# EAGLE library part XCV50E_CS144 (library xilinx-xcv)
xcv50e_cs144 edit this description Auto generated by make-symbol-device-package-bsdl.ulp Rev. 26 Source: xcv50e_cs144.bsd
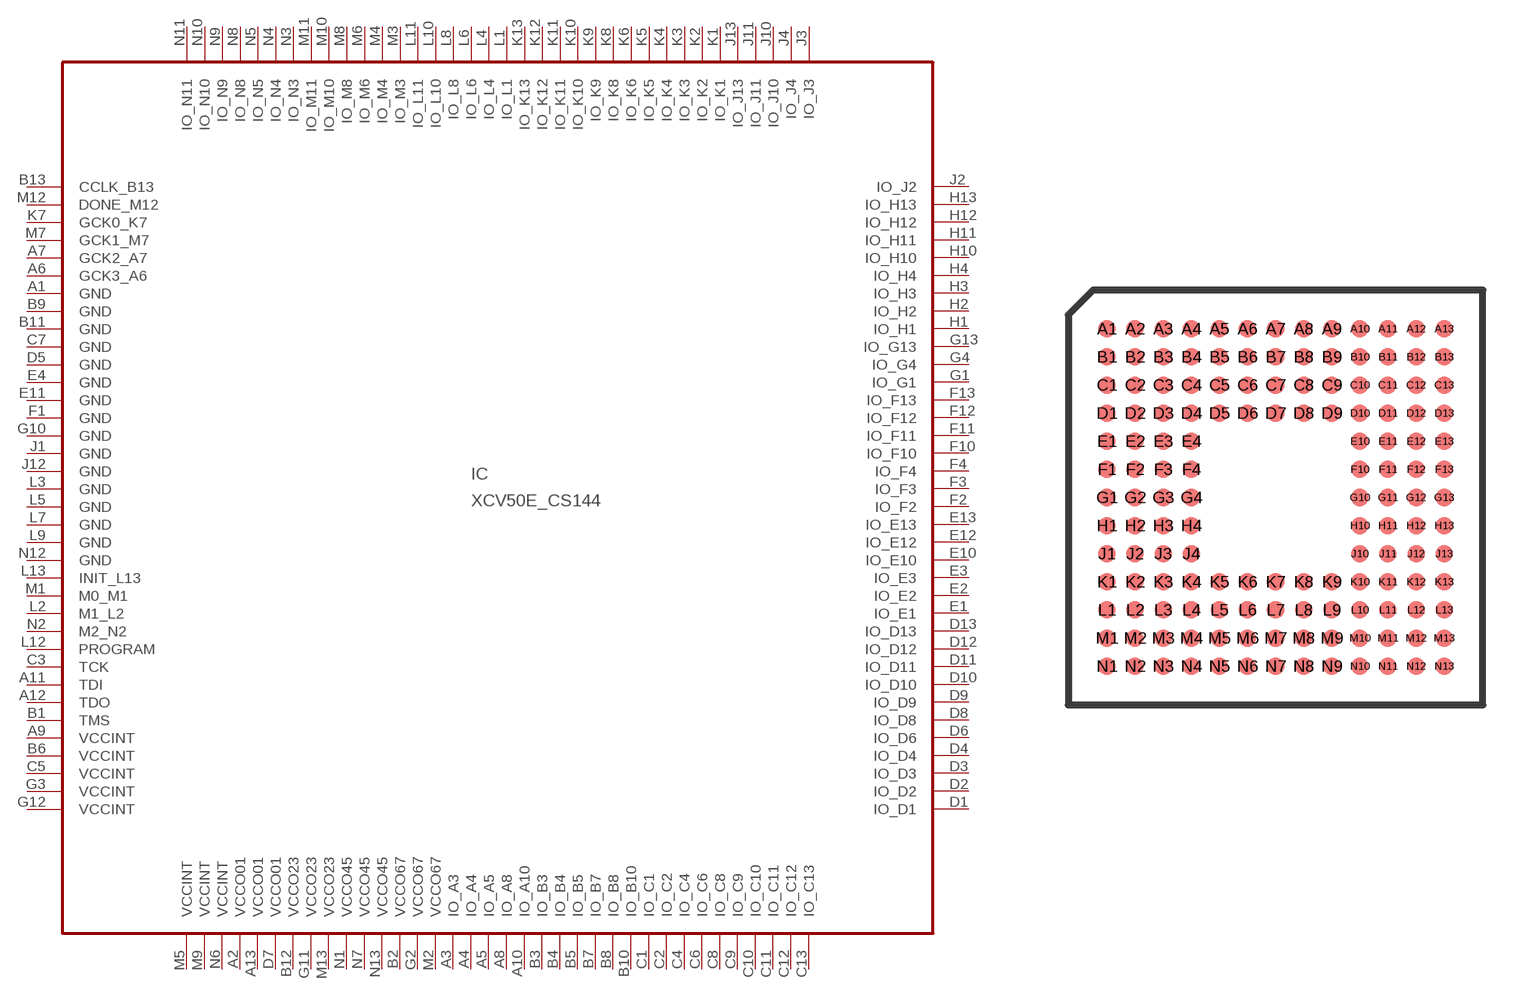
[diagram p70: symbol with the pads of CS144; footprint CS144]

Designator prefix IC

## XCV50E_CS144 (OC_FARNELL: unknown; OC_NEWARK: unknown)  [CS144]
A1  GND  pwr
A2  VCCO01  pwr
A3  IO_A3
A4  IO_A4
A5  IO_A5
A6  GCK3_A6  in
A7  GCK2_A7  in
A8  IO_A8
A9  VCCINT  pwr
A10  IO_A10
A11  TDI  in
A12  TDO  out
A13  VCCO01  pwr
B1  TMS  in
B2  VCCO67  pwr
B3  IO_B3
B4  IO_B4
B5  IO_B5
B6  VCCINT  pwr
B7  IO_B7
B8  IO_B8
B9  GND  pwr
B10  IO_B10
B11  GND  pwr
B12  VCCO23  pwr
B13  CCLK_B13
C1  IO_C1
C2  IO_C2
C3  TCK  in
C4  IO_C4
C5  VCCINT  pwr
C6  IO_C6
C7  GND  pwr
C8  IO_C8
C9  IO_C9
C10  IO_C10
C11  IO_C11
C12  IO_C12
C13  IO_C13
D1  IO_D1
D2  IO_D2
D3  IO_D3
D4  IO_D4
D5  GND  pwr
D6  IO_D6
D7  VCCO01  pwr
D8  IO_D8
D9  IO_D9
D10  IO_D10
D11  IO_D11
D12  IO_D12
D13  IO_D13
E1  IO_E1
E2  IO_E2
E3  IO_E3
E4  GND  pwr
E10  IO_E10
E11  GND  pwr
E12  IO_E12
E13  IO_E13
F1  GND  pwr
F2  IO_F2
F3  IO_F3
F4  IO_F4
F10  IO_F10
F11  IO_F11
F12  IO_F12
F13  IO_F13
G1  IO_G1
G2  VCCO67  pwr
G3  VCCINT  pwr
G4  IO_G4
G10  GND  pwr
G11  VCCO23  pwr
G12  VCCINT  pwr
G13  IO_G13
H1  IO_H1
H2  IO_H2
H3  IO_H3
H4  IO_H4
H10  IO_H10
H11  IO_H11
H12  IO_H12
H13  IO_H13
J1  GND  pwr
J2  IO_J2
J3  IO_J3
J4  IO_J4
J10  IO_J10
J11  IO_J11
J12  GND  pwr
J13  IO_J13
K1  IO_K1
K2  IO_K2
K3  IO_K3
K4  IO_K4
K5  IO_K5
K6  IO_K6
K7  GCK0_K7  in
K8  IO_K8
K9  IO_K9
K10  IO_K10
K11  IO_K11
K12  IO_K12
K13  IO_K13
L1  IO_L1
L2  M1_L2  in
L3  GND  pwr
L4  IO_L4
L5  GND  pwr
L6  IO_L6
L7  GND  pwr
L8  IO_L8
L9  GND  pwr
L10  IO_L10
L11  IO_L11
L12  PROGRAM  in
L13  INIT_L13
M1  M0_M1  in
M2  VCCO67  pwr
M3  IO_M3
M4  IO_M4
M5  VCCINT  pwr
M6  IO_M6
M7  GCK1_M7  in
M8  IO_M8
M9  VCCINT  pwr
M10  IO_M10
M11  IO_M11
M12  DONE_M12
M13  VCCO23  pwr
N1  VCCO45  pwr
N2  M2_N2  in
N3  IO_N3
N4  IO_N4
N5  IO_N5
N6  VCCINT  pwr
N7  VCCO45  pwr
N8  IO_N8
N9  IO_N9
N10  IO_N10
N11  IO_N11
N12  GND  pwr
N13  VCCO45  pwr

## Footprint CS144 (pad centres in mm)
xcv100e_cs144 edit this description Auto generated by make-symbol-device-package-bsdl.ulp Rev. 26 Source: xcv100e_cs144.bsd
smd 0.5 x 0.5: A1 -4.8,4.8; A2 -4,4.8; A3 -3.2,4.8; A4 -2.4,4.8; A5 -1.6,4.8; A6 -0.8,4.8; A7 0,4.8; A8 0.8,4.8; A9 1.6,4.8; A10 2.4,4.8; A11 3.2,4.8; A12 4,4.8; A13 4.8,4.8; B1 -4.8,4; B2 -4,4; B3 -3.2,4; B4 -2.4,4; B5 -1.6,4; B6 -0.8,4; B7 0,4; B8 0.8,4; B9 1.6,4; B10 2.4,4; B11 3.2,4; B12 4,4; B13 4.8,4; C1 -4.8,3.2; C2 -4,3.2; C3 -3.2,3.2; C4 -2.4,3.2; C5 -1.6,3.2; C6 -0.8,3.2; C7 0,3.2; C8 0.8,3.2; C9 1.6,3.2; C10 2.4,3.2; C11 3.2,3.2; C12 4,3.2; C13 4.8,3.2; D1 -4.8,2.4; D2 -4,2.4; D3 -3.2,2.4; D4 -2.4,2.4; D5 -1.6,2.4; D6 -0.8,2.4; D7 0,2.4; D8 0.8,2.4; D9 1.6,2.4; D10 2.4,2.4; D11 3.2,2.4; D12 4,2.4; D13 4.8,2.4; E1 -4.8,1.6; E2 -4,1.6; E3 -3.2,1.6; E4 -2.4,1.6; E10 2.4,1.6; E11 3.2,1.6; E12 4,1.6; E13 4.8,1.6; F1 -4.8,0.8; F2 -4,0.8; F3 -3.2,0.8; F4 -2.4,0.8; F10 2.4,0.8; F11 3.2,0.8; F12 4,0.8; F13 4.8,0.8; G1 -4.8,0; G2 -4,0; G3 -3.2,0; G4 -2.4,0; G10 2.4,0; G11 3.2,0; G12 4,0; G13 4.8,0; H1 -4.8,-0.8; H2 -4,-0.8; H3 -3.2,-0.8; H4 -2.4,-0.8; H10 2.4,-0.8; H11 3.2,-0.8; H12 4,-0.8; H13 4.8,-0.8; J1 -4.8,-1.6; J2 -4,-1.6; J3 -3.2,-1.6; J4 -2.4,-1.6; J10 2.4,-1.6; J11 3.2,-1.6; J12 4,-1.6; J13 4.8,-1.6; K1 -4.8,-2.4; K2 -4,-2.4; K3 -3.2,-2.4; K4 -2.4,-2.4; K5 -1.6,-2.4; K6 -0.8,-2.4; K7 0,-2.4; K8 0.8,-2.4; K9 1.6,-2.4; K10 2.4,-2.4; K11 3.2,-2.4; K12 4,-2.4; K13 4.8,-2.4; L1 -4.8,-3.2; L2 -4,-3.2; L3 -3.2,-3.2; L4 -2.4,-3.2; L5 -1.6,-3.2; L6 -0.8,-3.2; L7 0,-3.2; L8 0.8,-3.2; L9 1.6,-3.2; L10 2.4,-3.2; L11 3.2,-3.2; L12 4,-3.2; L13 4.8,-3.2; M1 -4.8,-4; M2 -4,-4; M3 -3.2,-4; M4 -2.4,-4; M5 -1.6,-4; M6 -0.8,-4; M7 0,-4; M8 0.8,-4; M9 1.6,-4; M10 2.4,-4; M11 3.2,-4; M12 4,-4; M13 4.8,-4; N1 -4.8,-4.8; N2 -4,-4.8; N3 -3.2,-4.8; N4 -2.4,-4.8; N5 -1.6,-4.8; N6 -0.8,-4.8; N7 0,-4.8; N8 0.8,-4.8; N9 1.6,-4.8; N10 2.4,-4.8; N11 3.2,-4.8; N12 4,-4.8; N13 4.8,-4.8